# EAGLE library part MIC2026 (library power)
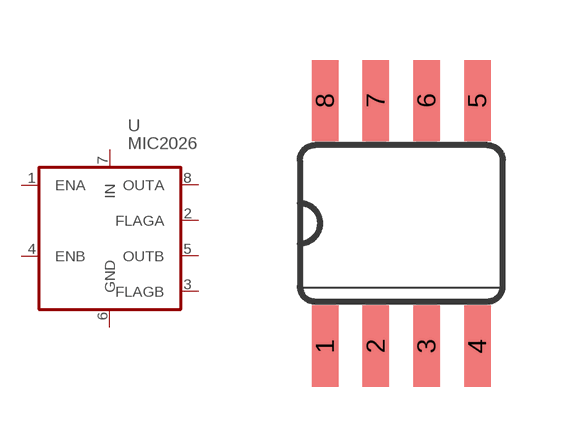
[diagram p3: symbol with the pads of SOIC08; footprint SOIC08]

Designator prefix U

## MIC2026 (PACKAGE: SOIC08)  [SOIC08]
1  ENA  in
2  FLAGA  out
3  FLAGB  out
4  ENB  in
5  OUTB  out
6  GND  pwr
7  IN  pwr
8  OUTA  out

## Footprint SOIC08 (pad centres in mm)
Small Outline Package
smd 0.66 x 2.032: 1 -1.905,-3.073; 2 -0.635,-3.073; 3 0.635,-3.073; 4 1.905,-3.073; 5 1.905,3.073; 6 0.635,3.073; 7 -0.635,3.073; 8 -1.905,3.073